# EAGLE library part 23*1024-I/ (library memory-serial-sram-microchip)
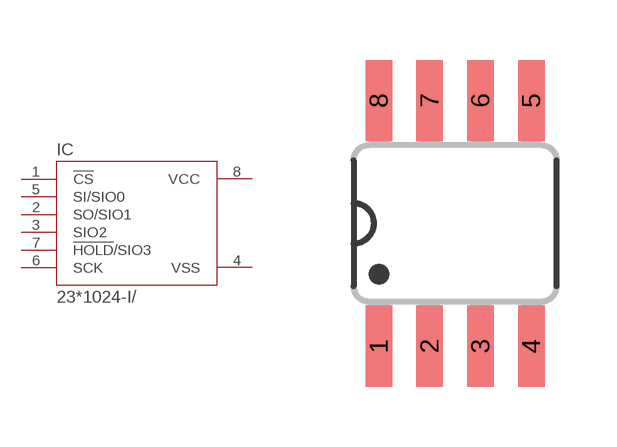
[diagram p0: symbol with the pads of SO8; footprint SO8]

Designator prefix IC

## 23A1024-I/SN (VOLTAGE: 1.7-2.2V), 23LC1024-I/SN (VOLTAGE: 2.5-5.5V)  [SO8]
1  !CS!
2  SO/SIO1
3  SIO2
4  VSS
5  SI/SIO0
6  SCK
7  !HOLD!/SIO3
8  VCC

## Footprint SO8 (pad centres in mm)
SMALL OUTLINE INTEGRATED CIRCUIT
smd 0.66 x 2.032: 1 -1.905,-3.073; 2 -0.635,-3.073; 3 0.635,-3.073; 4 1.905,-3.073; 5 1.905,3.073; 6 0.635,3.073; 7 -0.635,3.073; 8 -1.905,3.073